# Altium footprint library MyLibOLD.pcblib: 112 footprints (part 2 of 7)
Each footprint in its own frame and in the unit in brackets; x right, y up, seen from the top. Pads: shape width x height; smd on the part's side, far side on the other; paste and mask are expansions set on the pad; w line width, h text height; cw(c..) or ccw(c..) is an arc to the next point about the centre after c.
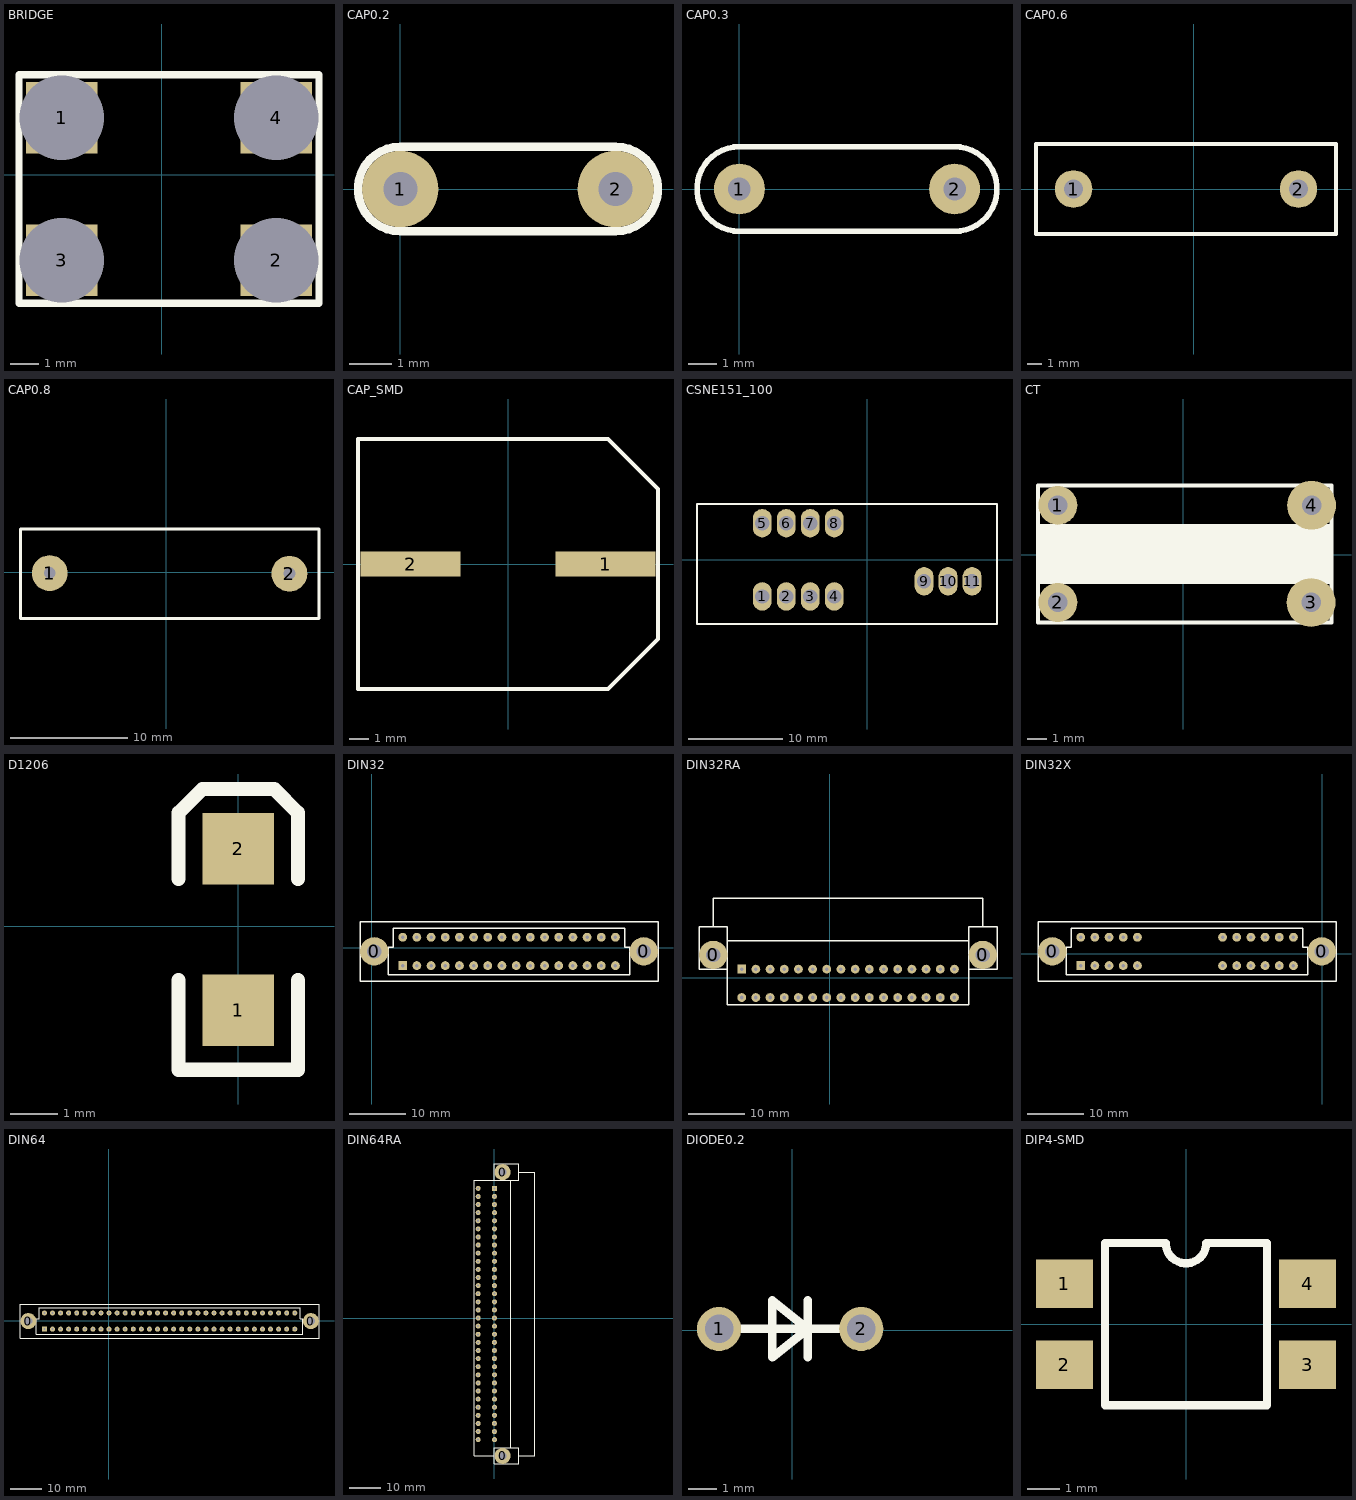
[diagram p1: the footprints below, top view; thin cyan lines are the x and y axes]

## BRIDGE [mil]
pads (4):
  rect 100x100 hole 118.11: 1(-140,80) 2(160,-120) 3(-140,-120) 4(160,80)
TopOverlay:
  lines w10: -200,-180 -200,140 220,140 220,-180 -200,-180

## CAP0.2 [mm]
pads (2):
  round 1.8 hole 0.8: 1(0,0) 2(5.08,0)
TopOverlay:
  lines w0.2: 0,-1 cw(c0,0) 0,1 5.08,1 cw(c5.08,0) 5.08,-1 0,-1

## CAP0.3 [mm]
pads (2):
  round 1.8 hole 0.8: 1(0,0) 2(7.62,0)
TopOverlay:
  lines w0.2: 0,-1.5 cw(c0,0) 0,1.5 7.62,1.5 cw(c7.62,0) 7.62,-1.5 0,-1.5

## CAP0.6 [mil]
pads (2):
  round 100 hole 50: 1(-320,0) 2(280,0)
TopOverlay:
  lines w10: -420,-120 -420,120 380,120 380,-120 -420,-120

## CAP0.8 [mil]
pads (2):
  round 120 hole 40: 1(-390.69,-2.51) 2(412.31,-4.51)
TopOverlay:
  lines w10: -488.69,-154.51 -488.69,145.49 511.31,145.49 511.31,-154.51 -488.69,-154.51

## CAP_SMD [mil]
pads (2):
  rect 200x50 smd: 1(195,0) 2(-195,0)
TopOverlay:
  lines w7.87: -300,-250 200,-250 300,-150 300,150 200,250 -300,250 -300,-250

## CSNE151_100 [mm]
pads (11):
  oval 2x3 hole 1.5: 1(-11.1,-3.873) 2(-8.56,-3.873) 3(-6.02,-3.873) 4(-3.48,-3.873) 5(-11.1,3.873) 6(-8.56,3.873) 7(-6.02,3.873) 8(-3.48,3.873) 9(6.02,-2.273) 10(8.56,-2.273) 11(11.1,-2.273)
TopOverlay:
  lines w0.254: -18.009,-6.794 -18.009,5.905 13.741,5.905 13.741,-6.794 -18.009,-6.794

## CT [mm]
pads (4):
  round 2 hole 1: 1(-6.439,2.543) 2(-6.439,-2.435)
  round 2.5 hole 1: 3(6.54,-2.435) 4(6.565,2.543)
TopOverlay:
  rectangle: -7.379,-1.495 7.505,1.578
  lines w0.203: 7.581,3.534 7.581,3.559 ; 7.581,3.559 7.581,-3.451 -7.455,-3.451 -7.455,3.559 7.581,3.559

## D1206 [mil]
pads (2):
  rect 60x60 smd: 1(0,-70) 2(0,65)
TopOverlay:
  lines w12: -50,-45 -50,-120 50,-120 50,-45 ; -50,40 -50,95 -30,115 22,115 ; 21,115 30,115 50,95 50,40

## DIN32 [mil]
pads (34):
  round 200 hole 100: 0(16.69,-24.25) 0(1916.69,-24.25)
  rect 62x62 hole 25: 1A(216.69,-124.25)
  round 62 hole 25: 1C(216.69,75.75) 2A(316.69,-124.25) 2C(316.69,75.75) 3A(416.69,-124.25) 3C(416.69,75.75) 4A(516.69,-124.25) 4C(516.69,75.75) 5A(616.69,-124.25) 5C(616.69,75.75) 6A(716.69,-124.25) 6C(716.69,75.75) 7A(816.69,-124.25) 7C(816.69,75.75) 8A(916.69,-124.25) 8C(916.69,75.75) 9A(1016.69,-124.25) 9C(1016.69,75.75) 10A(1116.69,-124.25) 10C(1116.69,75.75) 11A(1216.69,-124.25) 11C(1216.69,75.75) 12A(1316.69,-124.25) 12C(1316.69,75.75) 13A(1416.69,-124.25) 13C(1416.69,75.75) 14A(1516.69,-124.25) 14C(1516.69,75.75) 15A(1616.69,-124.25) 15C(1616.69,75.75) 16A(1716.69,-124.25) 16C(1716.69,75.75)
TopOverlay:
  lines w10: -83.31,-234.25 2016.69,-234.25 2016.69,185.75 -83.31,185.75 -83.31,-234.25 ; 116.69,-189.25 1816.69,-189.25 1816.69,5.75 1781.69,5.75 1781.69,140.75 151.69,140.75 151.69,5.75 116.69,5.75 116.69,-189.25

## DIN32RA [mil]
pads (34):
  round 200 hole 100: 0(-820,160) 0(1080,160)
  rect 62x62 hole 25: 1A(-620,60)
  round 62 hole 25: 1C(-620,-140) 2A(-520,60) 2C(-520,-140) 3A(-420,60) 3C(-420,-140) 4A(-320,60) 4C(-320,-140) 5A(-220,60) 5C(-220,-140) 6A(-120,60) 6C(-120,-140) 7A(-20,60) 7C(-20,-140) 8A(80,60) 8C(80,-140) 9A(180,60) 9C(180,-140) 10A(280,60) 10C(280,-140) 11A(380,60) 11C(380,-140) 12A(480,60) 12C(480,-140) 13A(580,60) 13C(580,-140) 14A(680,60) 14C(680,-140) 15A(780,60) 15C(780,-140) 16A(880,60) 16C(880,-140)
TopOverlay:
  lines w10: -720,260 980,260 ; -820,360 -720,360 -720,60 ; -820,360 -920,360 -920,60 -720,60 ; -820,360 -820,560 1080,560 1080,360 ; -720,60 -720,-190 980,-190 980,60 ; 980,60 980,360 1080,360 ; 980,60 1180,60 1180,360 1080,360

## DIN32X [mil]
pads (24):
  round 200 hole 100: 0(-1903.31,15.75) 0(-3.31,15.75)
  rect 62x62 hole 25: 1A(-1703.31,-84.25)
  round 62 hole 25: 1C(-1703.31,115.75) 2A(-1603.31,-84.25) 2C(-1603.31,115.75) 3A(-1503.31,-84.25) 3C(-1503.31,115.75) 4A(-1403.31,-84.25) 4C(-1403.31,115.75) 5A(-1303.31,-84.25) 5C(-1303.31,115.75) 11A(-703.31,-84.25) 11C(-703.31,115.75) 12A(-603.31,-84.25) 12C(-603.31,115.75) 13A(-503.31,-84.25) 13C(-503.31,115.75) 14A(-403.31,-84.25) 14C(-403.31,115.75) 15A(-303.31,-84.25) 15C(-303.31,115.75) 16A(-203.31,-84.25) 16C(-203.31,115.75)
TopOverlay:
  lines w10: -2003.31,-194.25 -2003.31,225.75 96.69,225.75 96.69,-194.25 -2003.31,-194.25 ; -1803.31,-149.25 -1803.31,45.75 -1768.31,45.75 -1768.31,180.75 -138.31,180.75 -138.31,45.75 -103.31,45.75 -103.31,-149.25 -1803.31,-149.25

## DIN64 [mil]
pads (66):
  round 200 hole 100: 0(-997.32,-2.99) 0(2502.68,-2.99)
  rect 62x62 hole 25: 1A(-797.32,-102.99)
  round 62 hole 25: 1C(-797.32,97.01) 2A(-697.32,-102.99) 2C(-697.32,97.01) 3A(-597.32,-102.99) 3C(-597.32,97.01) 4A(-497.32,-102.99) 4C(-497.32,97.01) 5A(-397.32,-102.99) 5C(-397.32,97.01) 6A(-297.32,-102.99) 6C(-297.32,97.01) 7A(-197.32,-102.99) 7C(-197.32,97.01) 8A(-97.32,-102.99) 8C(-97.32,97.01) 9A(2.68,-102.99) 9C(2.68,97.01) 10A(102.68,-102.99) 10C(102.68,97.01) 11A(202.68,-102.99) 11C(202.68,97.01) 12A(302.68,-102.99) 12C(302.68,97.01) 13A(402.68,-102.99) 13C(402.68,97.01) 14A(502.68,-102.99) 14C(502.68,97.01) 15A(602.68,-102.99) 15C(602.68,97.01) 16A(702.68,-102.99) 16C(702.68,97.01) 17A(802.68,-102.99) 17C(802.68,97.01) 18A(902.68,-102.99) 18C(902.68,97.01) 19A(1002.68,-102.99) 19C(1002.68,97.01) 20A(1102.68,-102.99) 20C(1102.68,97.01) 21A(1202.68,-102.99) 21C(1202.68,97.01) 22A(1302.68,-102.99) 22C(1302.68,97.01) 23A(1402.68,-102.99) 23C(1402.68,97.01) 24A(1502.68,-102.99) 24C(1502.68,97.01) 25A(1602.68,-102.99) 25C(1602.68,97.01) 26A(1702.68,-102.99) 26C(1702.68,97.01) 27A(1802.68,-102.99) 27C(1802.68,97.01) 28A(1902.68,-102.99) 28C(1902.68,97.01) 29A(2002.68,-102.99) 29C(2002.68,97.01) 30A(2102.68,-102.99) 30C(2102.68,97.01) 31A(2202.68,-102.99) 31C(2202.68,97.01) 32A(2302.68,-102.99) 32C(2302.68,97.01)
TopOverlay:
  lines w10: -1097.32,-212.99 -1097.32,207.01 2602.68,207.01 2602.68,-212.99 -1097.32,-212.99 ; -897.32,-167.99 -897.32,27.01 -862.32,27.01 -862.32,162.01 2367.68,162.01 2367.68,27.01 2402.68,27.01 2402.68,-167.99 -897.32,-167.99

## DIN64RA [mil]
pads (66):
  round 200 hole 100: 0(100,-1700) 0(100,1800)
  rect 62x62 hole 25: 1A(0,1600)
  round 62 hole 25: 1C(-200,1600) 2A(0,1500) 2C(-200,1500) 3A(0,1400) 3C(-200,1400) 4A(0,1300) 4C(-200,1300) 5A(0,1200) 5C(-200,1200) 6A(0,1100) 6C(-200,1100) 7A(0,1000) 7C(-200,1000) 8A(0,900) 8C(-200,900) 9A(0,800) 9C(-200,800) 10A(0,700) 10C(-200,700) 11A(0,600) 11C(-200,600) 12A(0,500) 12C(-200,500) 13A(0,400) 13C(-200,400) 14A(0,300) 14C(-200,300) 15A(0,200) 15C(-200,200) 16A(0,100) 16C(-200,100) 17A(0,0) 17C(-200,0) 18A(0,-100) 18C(-200,-100) 19A(0,-200) 19C(-200,-200) 20A(0,-300) 20C(-200,-300) 21A(0,-400) 21C(-200,-400) 22A(0,-500) 22C(-200,-500) 23A(0,-600) 23C(-200,-600) 24A(0,-700) 24C(-200,-700) 25A(0,-800) 25C(-200,-800) 26A(0,-900) 26C(-200,-900) 27A(0,-1000) 27C(-200,-1000) 28A(0,-1100) 28C(-200,-1100) 29A(0,-1200) 29C(-200,-1200) 30A(0,-1300) 30C(-200,-1300) 31A(0,-1400) 31C(-200,-1400) 32A(0,-1500) 32C(-200,-1500)
TopOverlay:
  lines w10: 0,-1700 -250,-1700 -250,1700 0,1700 ; 200,-1600 200,1700 ; 0,1700 0,1900 300,1900 300,1800 ; 0,1700 300,1700 300,1800 ; 300,-1700 300,-1600 0,-1600 0,-1800 300,-1800 300,-1700 ; 300,-1700 500,-1700 500,1800 300,1800

## DIODE0.2 [mil]
pads (2):
  round 62 hole 40: 1(-103,2) 2(97,2)
TopOverlay:
  lines w12: -103,2 97,2 ; 22,-38 22,42 ; -28,-38 -28,42 22,2 -28,-38

## DIP4-SMD [mil]
pads (4):
  rect 70x60 smd: 1(-150,50) 2(-150,-50) 3(150,-50) 4(150,50)
TopOverlay:
  lines w10: -100,-100 -100,100 -25,100 ccw(c0,100) 25,100 100,100 100,-100 -100,-100